# Altium schematic symbol library SCH - AMP - TI  TAS5720A-Q1.Schlib: 1 symbol
Pins are listed as number, name and electrical type; pins without a type are passive.

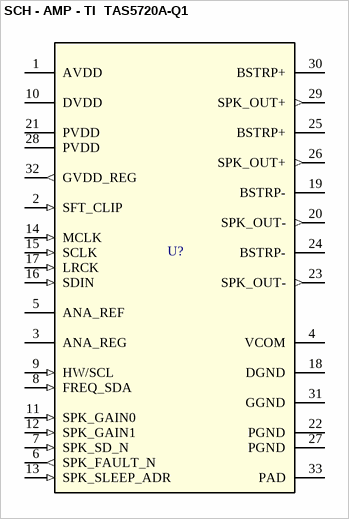
[diagram p0: symbol SCH - AMP - TI  TAS5720A-Q1]

## SCH - AMP - TI  TAS5720A-Q1
designator U?
footprint DAP0032A_N
pins: 1 AVDD (power), 2 SFT_CLIP (in), 3 ANA_REG, 4 VCOM (power), 5 ANA_REF (power), 6 SPK_FAULT_N (out), 7 SPK_SD_N (in), 8 FREQ_SDA (in), 9 HW/SCL (in), 10 DVDD (power), 11 SPK_GAIN0 (in), 12 SPK_GAIN1 (in), 13 SPK_SLEEP_ADR (in), 14 MCLK (in), 15 SCLK (in), 16 SDIN (in), 17 LRCK (in), 18 DGND (power), 19 BSTRP- (power), 20 SPK_OUT- (out), 21 PVDD (power), 22 PGND (power), 23 SPK_OUT- (out), 24 BSTRP- (power), 25 BSTRP+ (power), 26 SPK_OUT+ (out), 27 PGND (power), 28 PVDD (power), 29 SPK_OUT+ (out), 30 BSTRP+ (power), 31 GGND (power), 32 GVDD_REG (out), 33 PAD (power)